# Altium footprint library MS860702BA01.PcbLib: 1 footprints
Each footprint in its own frame and in the unit in brackets; x right, y up, seen from the top. Pads: shape width x height; smd on the part's side, far side on the other; paste and mask are expansions set on the pad; w line width, h text height; cw(c..) or ccw(c..) is an arc to the next point about the centre after c.
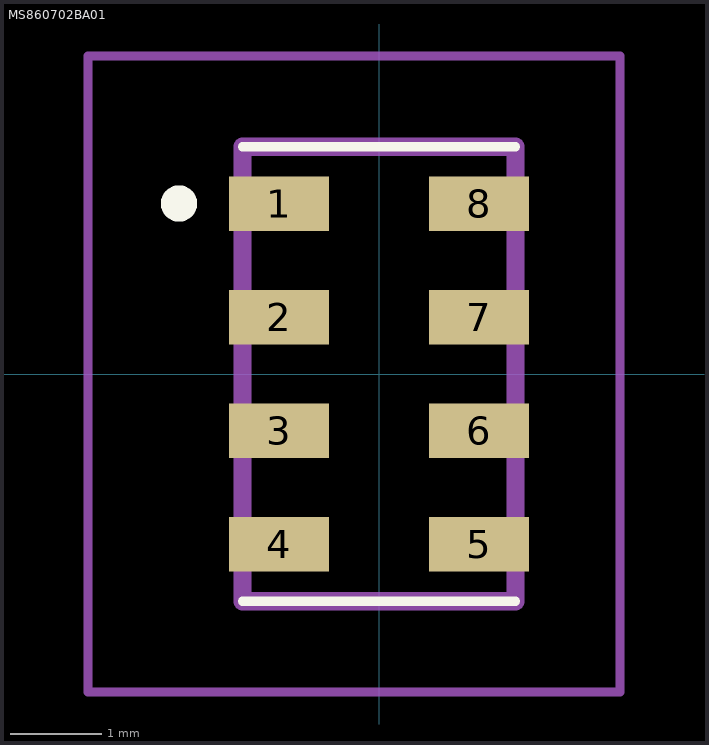
[diagram p0: the footprint, top view; thin cyan lines are the x and y axes]

## MS860702BA01 [mm]
pads (8):
  rect 1.1x0.6 smd: 1(-1.1,1.875) 2(-1.1,0.625) 3(-1.1,-0.625) 4(-1.1,-1.875) 5(1.1,-1.875) 6(1.1,-0.625) 7(1.1,0.625) 8(1.1,1.875)
Top Overlay:
  lines w0.1: -1.5,-2.5 1.5,-2.5 ; -1.5,2.5 1.5,2.5
  lines w0.2: -2.3,1.875 cw(c-2.2,1.875) -2.1,1.875 ; -2.3,1.875 -2.3,1.875 ; -2.3,1.875 ccw(c-2.2,1.875) -2.1,1.875 ; -2.1,1.875 -2.1,1.875
Mechanical 15:
  lines w0.2: -1.5,-2.5 1.5,-2.5 1.5,2.5 -1.5,2.5 -1.5,-2.5
Mechanical 20:
  lines w0.1: -3.2,-3.5 2.65,-3.5 2.65,3.5 -3.2,3.5 -3.2,-3.5
3D body "MS8607-02BA01.stp": height 5.8, standoff -4.65, extent -10,-3.376 10,3.376